# EAGLE library part IRU3037(A) (library special_parts)
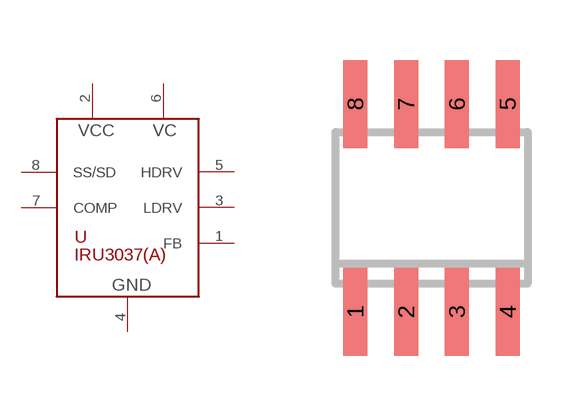
[diagram p6: symbol with the pads of SO08; footprint SO08]

Designator prefix -

## IRU3037(A)  [SO08]
1  FB
2  VCC
3  LDRV
4  GND
5  HDRV
6  VC
7  COMP
8  SS/SD

## Footprint SO08 (pad centres in mm)
smd 0.6 x 2.2: 1 -1.905,-2.6; 2 -0.635,-2.6; 3 0.635,-2.6; 4 1.905,-2.6; 5 1.905,2.6; 6 0.635,2.6; 7 -0.635,2.6; 8 -1.905,2.6